# Altium footprint library PDRV8243HRXYQ1.PcbLib: 1 footprints
Each footprint in its own frame and in the unit in brackets; x right, y up, seen from the top. Pads: shape width x height; smd on the part's side, far side on the other; paste and mask are expansions set on the pad; w line width, h text height; cw(c..) or ccw(c..) is an arc to the next point about the centre after c.
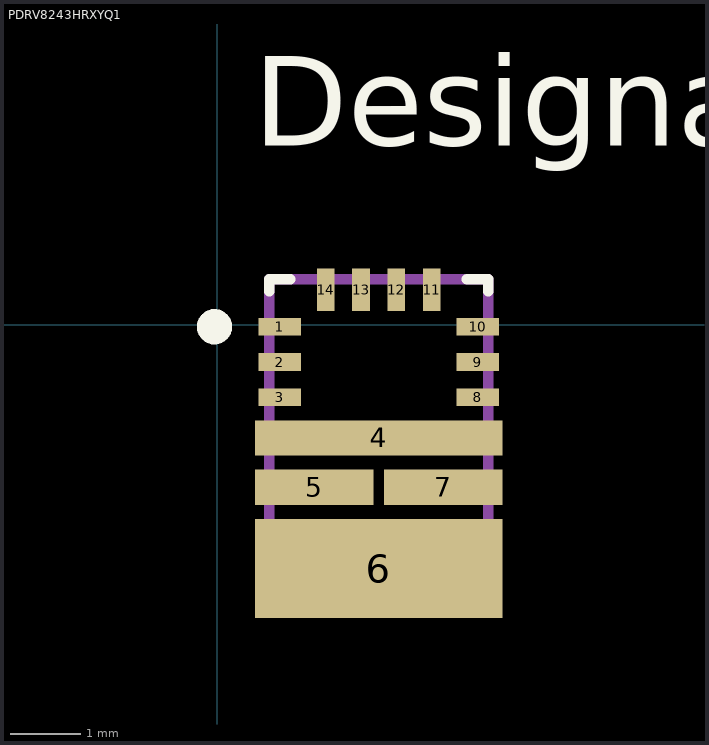
[diagram p0: the footprint, top view; thin cyan lines are the x and y axes]

## PDRV8243HRXYQ1 [mm]
pads (14):
  rect 0.6x0.25 smd paste+0 mask-0.292: 1(0.886,-0.026) 2(0.886,-0.526) 3(0.886,-1.026) 8(3.686,-1.026) 9(3.686,-0.526) 10(3.686,-0.026)
  rect 3.5x0.5 smd paste-1.737 mask-1.74: 4(2.286,-1.601)
  rect 1.675x0.5 smd paste-0.825 mask-0.826: 5(1.373,-2.301) 7(3.199,-2.301)
  rect 3.5x1.4 smd paste-1.737 mask-1.74: 6(2.286,-3.451)
  rect 0.25x0.6 smd paste+0 mask-0.292: 11(3.036,0.499) 12(2.536,0.499) 13(2.036,0.499) 14(1.536,0.499)
Top Overlay:
  circle w0.25: c-0.039,-0.026 r0.125
  lines w0.15: 0.736,0.474 0.736,0.649 1.036,0.649 ; 3.536,0.649 3.836,0.649 3.836,0.474
  text "Designator119" at 0.508,2.54 h1.27
Top Paste:
  region: 0.636,-3.126 0.586,-3.076 0.586,-2.926 0.636,-2.876 0.936,-2.876 0.936,-2.801 3.636,-2.801 3.636,-2.876 3.936,-2.876 3.986,-2.926 3.986,-3.076 3.936,-3.126 3.636,-3.126 3.636,-3.201 3.161,-3.201 3.161,-4.051 3.111,-4.101 2.961,-4.101 2.911,-4.051 2.911,-3.201 2.661,-3.201 2.661,-4.051 2.611,-4.101 2.461,-4.101 2.411,-4.051 2.411,-3.201 2.161,-3.201 2.161,-4.051 2.111,-4.101 1.961,-4.101 1.911,-4.051 1.911,-3.201 1.661,-3.201 1.661,-4.051 1.611,-4.101 1.461,-4.101 1.411,-4.051 1.411,-3.201 0.936,-3.201 0.936,-3.126
  region: 3.936,-2.176 3.986,-2.226 3.986,-2.376 3.936,-2.426 3.636,-2.426 3.636,-2.501 2.461,-2.501 2.411,-2.451 2.411,-2.151 2.461,-2.101 3.636,-2.101 3.636,-2.176
  region: 0.636,-2.426 0.586,-2.376 0.586,-2.226 0.636,-2.176 0.936,-2.176 0.936,-2.101 2.111,-2.101 2.161,-2.151 2.161,-2.451 2.111,-2.501 0.936,-2.501 0.936,-2.426
  region: 3.986,-1.526 3.986,-1.676 3.936,-1.726 3.636,-1.726 3.636,-1.801 2.461,-1.801 2.411,-1.751 2.411,-1.451 2.461,-1.401 3.636,-1.401 3.636,-1.476 3.936,-1.476
  region: 0.586,-1.676 0.586,-1.526 0.636,-1.476 0.936,-1.476 0.936,-1.401 2.111,-1.401 2.161,-1.451 2.161,-1.751 2.111,-1.801 0.936,-1.801 0.936,-1.726 0.636,-1.726
Top Solder:
  drawing of 15 lines, arcs and shapes, not listed
Mechanical 13:
  lines w0.15: 0.736,-3.951 0.736,0.649 3.836,0.649 3.836,-3.951 0.736,-3.951
  text ".Designator" at 2.286,-2.311 h1.27
3D body: height 0.25, standoff 0, extent 2.286,-1.651 2.54,-1.397
3D body "RXY0014A.stp": height 1, standoff 0, extent 0.786,-3.851 3.786,0.649